# Altium integrated library NSC LDO.IntLib: 2590 symbols (part 20 of 64)
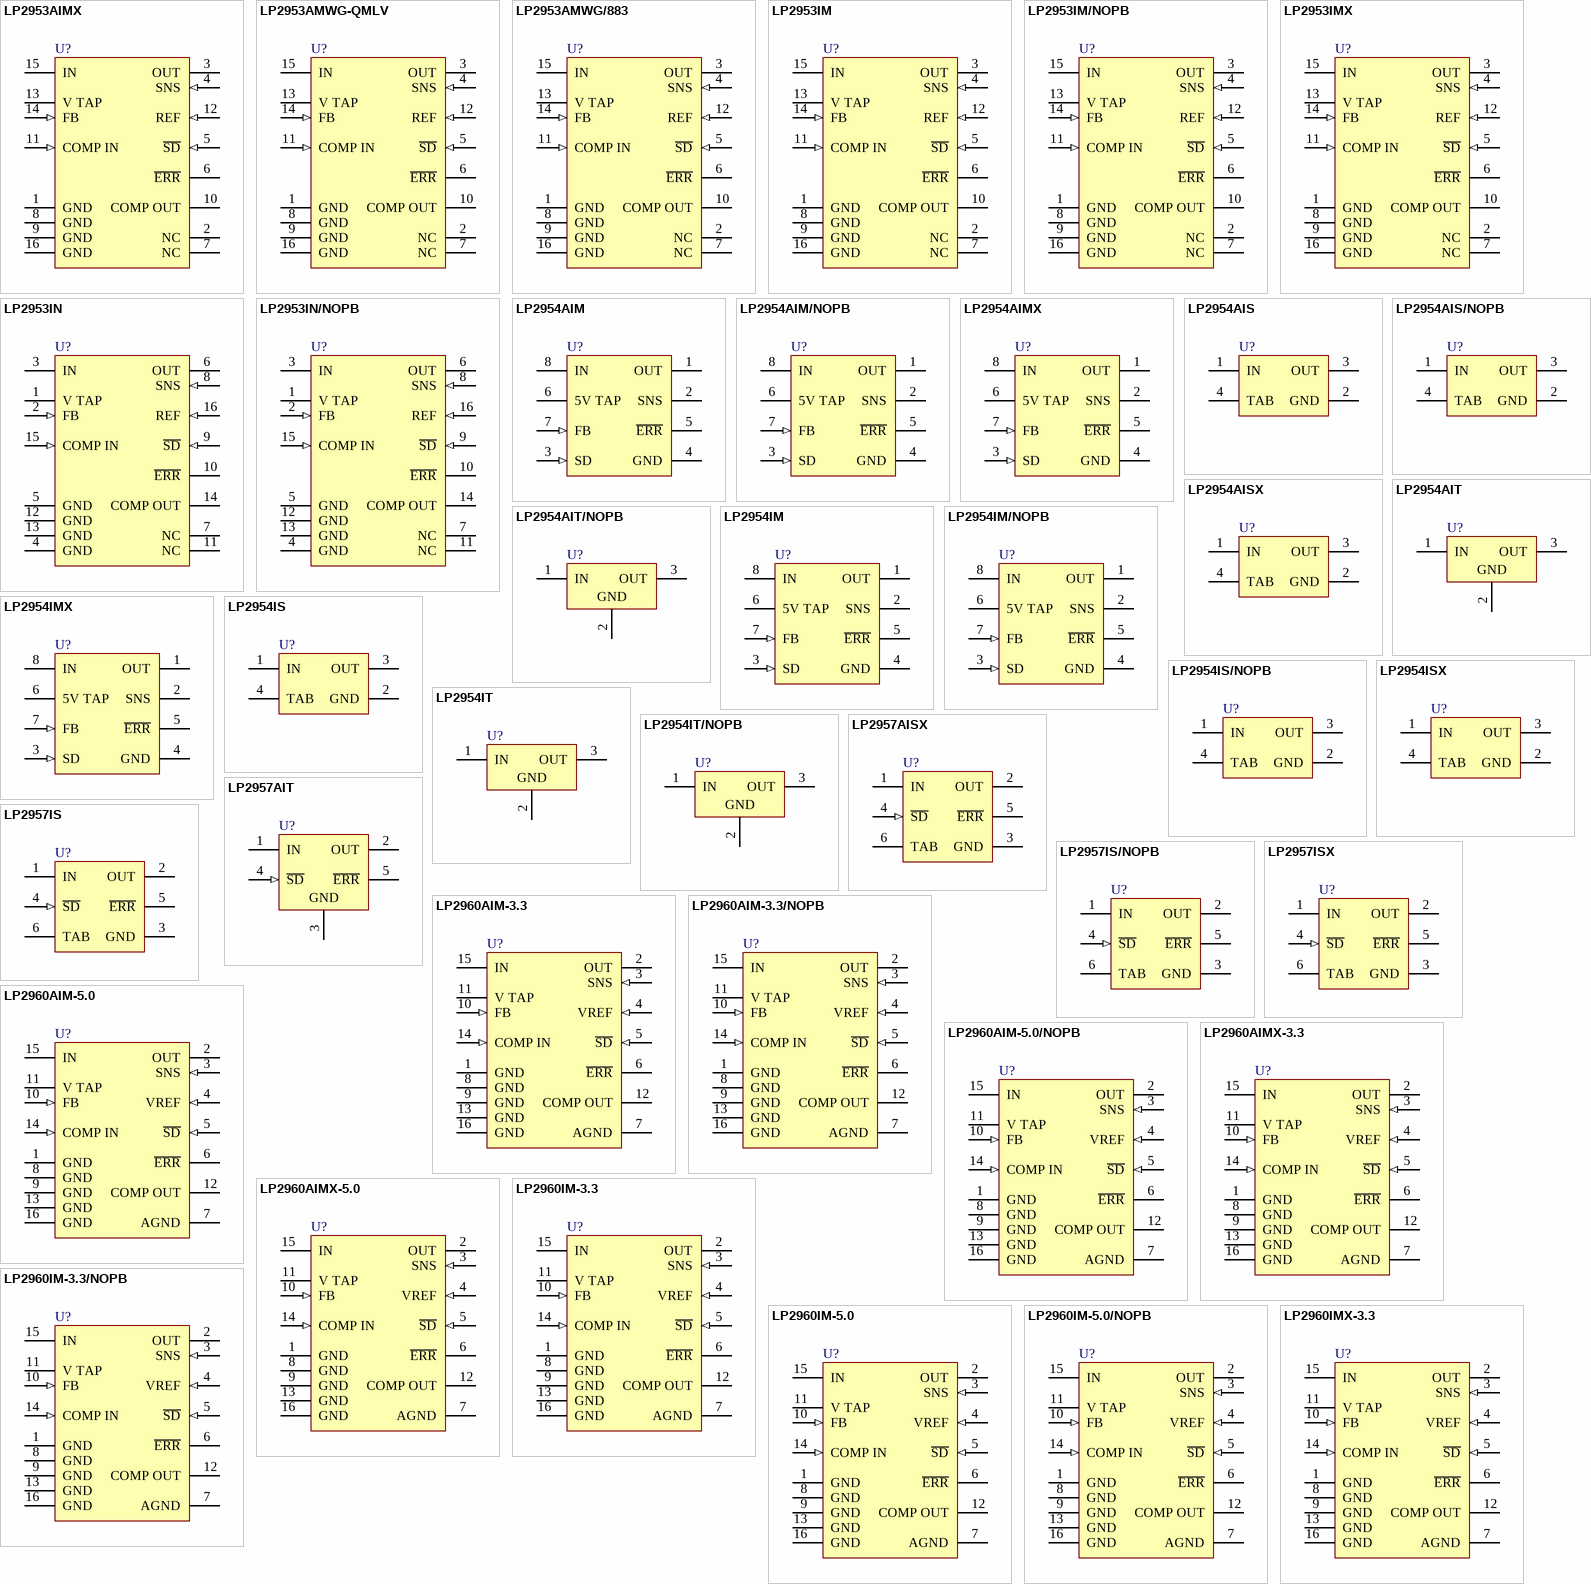
[diagram p84: symbols LP2953AIMX to LP2960IMX-3.3]

## LP2954ISX
designator U?
5V Micropower Low-Dropout Voltage Regulator, 3-pin TO-263; PartNumber: LP2954ISX; Manufacturer: National Semiconductor; PackageTopMarking: NSUZXYTTE#*LP2954IS; PowerWise: N; CompType: LDO IC; Published: 1-Mar-2010; DatasheetVersion: Apr-2005; PackageVersion: revF, Apr-2005; PackageReference: TS3B; Publisher: Altium Limited; PackageDescription: TO-263, Molded, .400 x .390 x .180in, 3 Lead, .1in Pitch, Surface Mount; RoHS: N; PinCount: 3; Code_JEDEC: MO-169-AA; ComponentLink1Description: LP2954 Datasheet; ComponentLink1URL: http://www.national.com/ds/LP/LP2954.pdf; ComponentLink2Description: LP2954 Web Page; ComponentLink2URL: http://www.national.com/pf/LP/LP2954.html; ComponentLink3Description: TS3B Package Page; ComponentLink3URL: http://www.national.com/packaging/folders/ts3b.html
footprint TS3B_N (D2-PAK, 4-Leads, Body 8.6x10.2mm, Pitch 2.54mm, Lead Span 14.2mm, IPC Medium Density)
footprint TS3B_L (D2-PAK, 4-Leads, Body 8.6x10.2mm, Pitch 2.54mm, Lead Span 14.2mm, IPC High Density)
footprint TS3B_M (D2-PAK, 4-Leads, Body 8.6x10.2mm, Pitch 2.54mm, Lead Span 14.2mm, IPC Low Density)
pins: 1 IN (power), 2 GND (power), 3 OUT (power), 4 TAB (power)

## LP2954IT
designator U?
5V Micropower Low-Dropout Voltage Regulator, 3-pin TO-220; PartNumber: LP2954IT; Manufacturer: National Semiconductor; PackageTopMarking: NSUZXYTTE#*LP2954IT; PowerWise: N; CompType: LDO IC; Published: 4-Dec-2008; DatasheetVersion: Apr-2005; PackageVersion: revL, Jan-1992; PackageReference: T03B; Publisher: Altium Limited; PackageDescription: TO-220, Molded, 3 Lead, Straight; Supplier 1: Farnell; Supplier Part Number 1: 9486020; RoHS: N; PinCount: 3; ComponentLink1Description: LP2954 Datasheet; ComponentLink1URL: http://www.national.com/ds/LP/LP2954.pdf; ComponentLink2Description: LP2954 Web Page; ComponentLink2URL: http://www.national.com/pf/LP/LP2954.html; ComponentLink3Description: T03B Package Page; ComponentLink3URL: http://www.national.com/packaging/folders/t03b.html
footprint T03B (TO, Thru-Hole, Vertical, Heatsink Mounted; 3 In-Line Leads; Pitch 2.54 mm)
pins: 1 IN (power), 2 GND (power), 3 OUT (power)

## LP2954IT/NOPB
designator U?
5V Micropower Low-Dropout Voltage Regulator, 3-pin TO-220, Pb-Free; PartNumber: LP2954IT/NOPB; Manufacturer: National Semiconductor; PackageTopMarking: NSUZXYTTE#*LP2954IT; PowerWise: N; CompType: LDO IC; Published: 1-Mar-2010; DatasheetVersion: Apr-2005; PackageVersion: revL, Jan-1992; PackageReference: T03B; Publisher: Altium Limited; PackageDescription: TO-220, Molded, 3 Lead, Straight; Supplier 1: Digi-Key; Supplier Part Number 1: LP2954IT-ND; Supplier 2: Farnell; Supplier Part Number 2: 1371212; RoHS: Y; PinCount: 3; ComponentLink1Description: LP2954 Datasheet; ComponentLink1URL: http://www.national.com/ds/LP/LP2954.pdf; ComponentLink2Description: LP2954 Web Page; ComponentLink2URL: http://www.national.com/pf/LP/LP2954.html; ComponentLink3Description: T03B Package Page; ComponentLink3URL: http://www.national.com/packaging/folders/t03b.html
footprint T03B (TO, Thru-Hole, Vertical, Heatsink Mounted; 3 In-Line Leads; Pitch 2.54 mm)
pins: 1 IN (power), 2 GND (power), 3 OUT (power)

## LP2957AISX
designator U?
5V Low-Dropout Regulator for micro-P Application, 5-pin TO-263; PartNumber: LP2957AISX; Manufacturer: National Semiconductor; PackageTopMarking: NSUZXYTTE#*LP2957AIS; PowerWise: N; CompType: LDO IC; Published: 1-Mar-2010; DatasheetVersion: Jun-1998; PackageVersion: revD, Apr-2005; PackageReference: TS5B; Publisher: Altium Limited; PackageDescription: TO-263, Molded, .400 x .390 x .180in, 5 Lead, .067in Pitch, Surface Mount; RoHS: N; PinCount: 5; Code_JEDEC: MO-169-AB; ComponentLink1Description: LP2957A Datasheet; ComponentLink1URL: http://www.national.com/ds/LP/LP2957A.pdf; ComponentLink2Description: LP2957A Web Page; ComponentLink2URL: http://www.national.com/pf/LP/LP2957A.html; ComponentLink3Description: TS5B Package Page; ComponentLink3URL: http://www.national.com/packaging/folders/ts5b.html
footprint TS5B_N (D2-PAK, 6-Leads, Body 8.6x10.2mm, Pitch 1.7mm, Lead Span 14.1mm, IPC Medium Density)
footprint TS5B_L (D2-PAK, 6-Leads, Body 8.6x10.2mm, Pitch 1.7mm, Lead Span 14.1mm, IPC High Density)
footprint TS5B_M (D2-PAK, 6-Leads, Body 8.6x10.2mm, Pitch 1.7mm, Lead Span 14.1mm, IPC Low Density)
pins: 1 IN (power), 2 OUT (power), 3 GND (power), 4 ~{SD} (in), 5 ~{ERR} (oc), 6 TAB (power)

## LP2957AIT
designator U?
5V Low-Dropout Regulator for micro-P Application, 5-pin TO-220; PartNumber: LP2957AIT; Manufacturer: National Semiconductor; PackageTopMarking: NSUZXYTTE#*LP2957AIT; PowerWise: N; CompType: LDO IC; Published: 4-Dec-2008; DatasheetVersion: Jun-1998; PackageVersion: revA, Oct-1989; PackageReference: T05D; Publisher: Altium Limited; PackageDescription: TO-220, Molded, Stagger Bend, 5 Lead; Supplier 1: Farnell; Supplier Part Number 1: 956041; RoHS: N; PinCount: 5; ComponentLink1Description: LP2957A Datasheet; ComponentLink1URL: http://www.national.com/ds/LP/LP2957A.pdf; ComponentLink2Description: LP2957A Web Page; ComponentLink2URL: http://www.national.com/pf/LP/LP2957A.html; ComponentLink3Description: T05D Package Page; ComponentLink3URL: http://www.national.com/packaging/folders/t05d.html
footprint T05D (TO, Thru-Hole, Vertical, Heatsink Mounted; 5 Bent Staggered Leads; Body 10.3x8.6x4.6mm, Pitch 1.7 mm)
pins: 1 IN (power), 2 OUT (power), 3 GND (power), 4 ~{SD} (in), 5 ~{ERR} (oc)

## LP2957IS
designator U?
5V Low-Dropout Regulator for micro-P Application, 5-pin TO-263; PartNumber: LP2957IS; Manufacturer: National Semiconductor; PackageTopMarking: NSUZXYTTE#*LP2957IS; PowerWise: N; CompType: LDO IC; Published: 4-Dec-2008; DatasheetVersion: Jun-1998; PackageVersion: revD, Apr-2005; PackageReference: TS5B; Publisher: Altium Limited; PackageDescription: TO-263, Molded, .400 x .390 x .180in, 5 Lead, .067in Pitch, Surface Mount; Supplier 1: Farnell; Supplier Part Number 1: 956053; RoHS: N; PinCount: 5; Code_JEDEC: MO-169-AB; ComponentLink1Description: LP2957 Datasheet; ComponentLink1URL: http://www.national.com/ds/LP/LP2957.pdf; ComponentLink2Description: LP2957 Web Page; ComponentLink2URL: http://www.national.com/pf/LP/LP2957.html; ComponentLink3Description: TS5B Package Page; ComponentLink3URL: http://www.national.com/packaging/folders/ts5b.html
footprint TS5B_N (D2-PAK, 6-Leads, Body 8.6x10.2mm, Pitch 1.7mm, Lead Span 14.1mm, IPC Medium Density)
footprint TS5B_L (D2-PAK, 6-Leads, Body 8.6x10.2mm, Pitch 1.7mm, Lead Span 14.1mm, IPC High Density)
footprint TS5B_M (D2-PAK, 6-Leads, Body 8.6x10.2mm, Pitch 1.7mm, Lead Span 14.1mm, IPC Low Density)
pins: 1 IN (power), 2 OUT (power), 3 GND (power), 4 ~{SD} (in), 5 ~{ERR} (oc), 6 TAB (power)

## LP2957IS/NOPB
designator U?
5V Low-Dropout Regulator for micro-P Application, 5-pin TO-263, Pb-Free; PartNumber: LP2957IS/NOPB; Manufacturer: National Semiconductor; PackageTopMarking: NSUZXYTTE#*LP2957IS; PowerWise: N; CompType: LDO IC; Published: 1-Mar-2010; DatasheetVersion: Jun-1998; PackageVersion: revD, Apr-2005; PackageReference: TS5B; Publisher: Altium Limited; PackageDescription: TO-263, Molded, .400 x .390 x .180in, 5 Lead, .067in Pitch, Surface Mount; Supplier 1: Digi-Key; Supplier Part Number 1: LP2957IS-ND; Supplier 2: Farnell; Supplier Part Number 2: 1685672; RoHS: Y; PinCount: 5; Code_JEDEC: MO-169-AB; ComponentLink1Description: LP2957 Datasheet; ComponentLink1URL: http://www.national.com/ds/LP/LP2957.pdf; ComponentLink2Description: LP2957 Web Page; ComponentLink2URL: http://www.national.com/pf/LP/LP2957.html; ComponentLink3Description: TS5B Package Page; ComponentLink3URL: http://www.national.com/packaging/folders/ts5b.html
footprint TS5B_N (D2-PAK, 6-Leads, Body 8.6x10.2mm, Pitch 1.7mm, Lead Span 14.1mm, IPC Medium Density)
footprint TS5B_L (D2-PAK, 6-Leads, Body 8.6x10.2mm, Pitch 1.7mm, Lead Span 14.1mm, IPC High Density)
footprint TS5B_M (D2-PAK, 6-Leads, Body 8.6x10.2mm, Pitch 1.7mm, Lead Span 14.1mm, IPC Low Density)
pins: 1 IN (power), 2 OUT (power), 3 GND (power), 4 ~{SD} (in), 5 ~{ERR} (oc), 6 TAB (power)

## LP2957ISX
designator U?
5V Low-Dropout Regulator for micro-P Application, 5-pin TO-263; PartNumber: LP2957ISX; Manufacturer: National Semiconductor; PackageTopMarking: NSUZXYTTE#*LP2957IS; PowerWise: N; CompType: LDO IC; Published: 1-Mar-2010; DatasheetVersion: Jun-1998; PackageVersion: revD, Apr-2005; PackageReference: TS5B; Publisher: Altium Limited; PackageDescription: TO-263, Molded, .400 x .390 x .180in, 5 Lead, .067in Pitch, Surface Mount; RoHS: N; PinCount: 5; Code_JEDEC: MO-169-AB; ComponentLink1Description: LP2957 Datasheet; ComponentLink1URL: http://www.national.com/ds/LP/LP2957.pdf; ComponentLink2Description: LP2957 Web Page; ComponentLink2URL: http://www.national.com/pf/LP/LP2957.html; ComponentLink3Description: TS5B Package Page; ComponentLink3URL: http://www.national.com/packaging/folders/ts5b.html
footprint TS5B_N (D2-PAK, 6-Leads, Body 8.6x10.2mm, Pitch 1.7mm, Lead Span 14.1mm, IPC Medium Density)
footprint TS5B_L (D2-PAK, 6-Leads, Body 8.6x10.2mm, Pitch 1.7mm, Lead Span 14.1mm, IPC High Density)
footprint TS5B_M (D2-PAK, 6-Leads, Body 8.6x10.2mm, Pitch 1.7mm, Lead Span 14.1mm, IPC Low Density)
pins: 1 IN (power), 2 OUT (power), 3 GND (power), 4 ~{SD} (in), 5 ~{ERR} (oc), 6 TAB (power)

## LP2960AIM-3.3
designator U?
Adjustable Micropower 0.5A Low-Dropout Regulators, 16-pin Narrow SOIC; PartNumber: LP2960AIM-3.3; Manufacturer: National Semiconductor; PackageTopMarking: NSUZXYTTE#*LP2960AIM*-3.3; PowerWise: N; CompType: LDO IC; Published: 4-Dec-2008; DatasheetVersion: Jun-2005; PackageVersion: revJ, Aug-1995; PackageReference: M16A; Publisher: Altium Limited; PackageDescription: Molded Package, SO, .150in Wide, 16 Lead; Supplier 1: Farnell; Supplier Part Number 1: 956077; RoHS: N; PinCount: 16; Code_JEDEC: MS-012-AC; Code_IPC: SOIC127P600-16; ComponentLink1Description: LP2960 Datasheet; ComponentLink1URL: http://www.national.com/ds/LP/LP2960.pdf; ComponentLink2Description: LP2960 Web Page; ComponentLink2URL: http://www.national.com/pf/LP/LP2960.html; ComponentLink3Description: M16A Package Page; ComponentLink3URL: http://www.national.com/packaging/folders/m16a.html
footprint M16A_N (SOIC, 16-Leads, Body 9.9x3.9mm, Pitch 1.27mm, IPC Medium Density)
footprint M16A_L (SOIC, 16-Leads, Body 9.9x3.9mm, Pitch 1.27mm, IPC High Density)
footprint M16A_M (SOIC, 16-Leads, Body 9.9x3.9mm, Pitch 1.27mm, IPC Low Density)
pins: 1 GND (power), 2 OUT (power), 3 SNS (in), 4 VREF (in), 5 ~{SD} (in), 6 ~{ERR} (oc), 7 AGND (power), 8 GND (power), 9 GND (power), 10 FB (in), 11 V TAP, 12 COMP OUT (oc), 13 GND (power), 14 COMP IN (in), 15 IN (power), 16 GND (power)

## LP2960AIM-3.3/NOPB
designator U?
Adjustable Micropower 0.5A Low-Dropout Regulators, 16-pin Narrow SOIC, Pb-Free; PartNumber: LP2960AIM-3.3/NOPB; Manufacturer: National Semiconductor; PackageTopMarking: NSUZXYTTE#*LP2960AIM*-3.3; PowerWise: N; CompType: LDO IC; Published: 1-Mar-2010; DatasheetVersion: Jun-2005; PackageVersion: revJ, Aug-1995; PackageReference: M16A; Publisher: Altium Limited; PackageDescription: Molded Package, SO, .150in Wide, 16 Lead; Supplier 1: Digi-Key; Supplier Part Number 1: LP2960AIM-3.3-ND; RoHS: Y; PinCount: 16; Code_JEDEC: MS-012-AC; Code_IPC: SOIC127P600-16; ComponentLink1Description: LP2960 Datasheet; ComponentLink1URL: http://www.national.com/ds/LP/LP2960.pdf; ComponentLink2Description: LP2960 Web Page; ComponentLink2URL: http://www.national.com/pf/LP/LP2960.html; ComponentLink3Description: M16A Package Page; ComponentLink3URL: http://www.national.com/packaging/folders/m16a.html
footprint M16A_N (SOIC, 16-Leads, Body 9.9x3.9mm, Pitch 1.27mm, IPC Medium Density)
footprint M16A_L (SOIC, 16-Leads, Body 9.9x3.9mm, Pitch 1.27mm, IPC High Density)
footprint M16A_M (SOIC, 16-Leads, Body 9.9x3.9mm, Pitch 1.27mm, IPC Low Density)
pins: 1 GND (power), 2 OUT (power), 3 SNS (in), 4 VREF (in), 5 ~{SD} (in), 6 ~{ERR} (oc), 7 AGND (power), 8 GND (power), 9 GND (power), 10 FB (in), 11 V TAP, 12 COMP OUT (oc), 13 GND (power), 14 COMP IN (in), 15 IN (power), 16 GND (power)

## LP2960AIM-5.0
designator U?
Adjustable Micropower 0.5A Low-Dropout Regulators, 16-pin Narrow SOIC; PartNumber: LP2960AIM-5.0; Manufacturer: National Semiconductor; PackageTopMarking: NSUZXYTTE#*LP2960AIM*-5.0; PowerWise: N; CompType: LDO IC; Published: 4-Dec-2008; DatasheetVersion: Jun-2005; PackageVersion: revJ, Aug-1995; PackageReference: M16A; Publisher: Altium Limited; PackageDescription: Molded Package, SO, .150in Wide, 16 Lead; Supplier 1: Digi-Key; Supplier Part Number 1: LP2960AIM-5.0-ND; Supplier 2: Farnell; Supplier Part Number 2: 9494863; RoHS: N; PinCount: 16; Code_JEDEC: MS-012-AC; Code_IPC: SOIC127P600-16; ComponentLink1Description: LP2960 Datasheet; ComponentLink1URL: http://www.national.com/ds/LP/LP2960.pdf; ComponentLink2Description: LP2960 Web Page; ComponentLink2URL: http://www.national.com/pf/LP/LP2960.html; ComponentLink3Description: M16A Package Page; ComponentLink3URL: http://www.national.com/packaging/folders/m16a.html
footprint M16A_N (SOIC, 16-Leads, Body 9.9x3.9mm, Pitch 1.27mm, IPC Medium Density)
footprint M16A_L (SOIC, 16-Leads, Body 9.9x3.9mm, Pitch 1.27mm, IPC High Density)
footprint M16A_M (SOIC, 16-Leads, Body 9.9x3.9mm, Pitch 1.27mm, IPC Low Density)
pins: 1 GND (power), 2 OUT (power), 3 SNS (in), 4 VREF (in), 5 ~{SD} (in), 6 ~{ERR} (oc), 7 AGND (power), 8 GND (power), 9 GND (power), 10 FB (in), 11 V TAP, 12 COMP OUT (oc), 13 GND (power), 14 COMP IN (in), 15 IN (power), 16 GND (power)

## LP2960AIM-5.0/NOPB
designator U?
Adjustable Micropower 0.5A Low-Dropout Regulators, 16-pin Narrow SOIC, Pb-Free; PartNumber: LP2960AIM-5.0/NOPB; Manufacturer: National Semiconductor; PackageTopMarking: NSUZXYTTE#*LP2960AIM*-5.0; PowerWise: N; CompType: LDO IC; Published: 1-Mar-2010; DatasheetVersion: Jun-2005; PackageVersion: revJ, Aug-1995; PackageReference: M16A; Publisher: Altium Limited; PackageDescription: Molded Package, SO, .150in Wide, 16 Lead; Supplier 1: Digi-Key; Supplier Part Number 1: LP2960AIM-5.0/NOPB-ND; RoHS: Y; PinCount: 16; Code_JEDEC: MS-012-AC; Code_IPC: SOIC127P600-16; ComponentLink1Description: LP2960 Datasheet; ComponentLink1URL: http://www.national.com/ds/LP/LP2960.pdf; ComponentLink2Description: LP2960 Web Page; ComponentLink2URL: http://www.national.com/pf/LP/LP2960.html; ComponentLink3Description: M16A Package Page; ComponentLink3URL: http://www.national.com/packaging/folders/m16a.html
footprint M16A_N (SOIC, 16-Leads, Body 9.9x3.9mm, Pitch 1.27mm, IPC Medium Density)
footprint M16A_L (SOIC, 16-Leads, Body 9.9x3.9mm, Pitch 1.27mm, IPC High Density)
footprint M16A_M (SOIC, 16-Leads, Body 9.9x3.9mm, Pitch 1.27mm, IPC Low Density)
pins: 1 GND (power), 2 OUT (power), 3 SNS (in), 4 VREF (in), 5 ~{SD} (in), 6 ~{ERR} (oc), 7 AGND (power), 8 GND (power), 9 GND (power), 10 FB (in), 11 V TAP, 12 COMP OUT (oc), 13 GND (power), 14 COMP IN (in), 15 IN (power), 16 GND (power)

## LP2960AIMX-3.3
designator U?
Adjustable Micropower 0.5A Low-Dropout Regulators, 16-pin Narrow SOIC; PartNumber: LP2960AIMX-3.3; Manufacturer: National Semiconductor; PackageTopMarking: NSUZXYTTE#*LP2960AIM*-3.3; PowerWise: N; CompType: LDO IC; Published: 1-Mar-2010; DatasheetVersion: Jun-2005; PackageVersion: revJ, Aug-1995; PackageReference: M16A; Publisher: Altium Limited; PackageDescription: Molded Package, SO, .150in Wide, 16 Lead; RoHS: N; PinCount: 16; Code_JEDEC: MS-012-AC; Code_IPC: SOIC127P600-16; ComponentLink1Description: LP2960 Datasheet; ComponentLink1URL: http://www.national.com/ds/LP/LP2960.pdf; ComponentLink2Description: LP2960 Web Page; ComponentLink2URL: http://www.national.com/pf/LP/LP2960.html; ComponentLink3Description: M16A Package Page; ComponentLink3URL: http://www.national.com/packaging/folders/m16a.html
footprint M16A_N (SOIC, 16-Leads, Body 9.9x3.9mm, Pitch 1.27mm, IPC Medium Density)
footprint M16A_L (SOIC, 16-Leads, Body 9.9x3.9mm, Pitch 1.27mm, IPC High Density)
footprint M16A_M (SOIC, 16-Leads, Body 9.9x3.9mm, Pitch 1.27mm, IPC Low Density)
pins: 1 GND (power), 2 OUT (power), 3 SNS (in), 4 VREF (in), 5 ~{SD} (in), 6 ~{ERR} (oc), 7 AGND (power), 8 GND (power), 9 GND (power), 10 FB (in), 11 V TAP, 12 COMP OUT (oc), 13 GND (power), 14 COMP IN (in), 15 IN (power), 16 GND (power)

## LP2960AIMX-5.0
designator U?
Adjustable Micropower 0.5A Low-Dropout Regulators, 16-pin Narrow SOIC; PartNumber: LP2960AIMX-5.0; Manufacturer: National Semiconductor; PackageTopMarking: NSUZXYTTE#*LP2960AIM*-5.0; PowerWise: N; CompType: LDO IC; Published: 1-Mar-2010; DatasheetVersion: Jun-2005; PackageVersion: revJ, Aug-1995; PackageReference: M16A; Publisher: Altium Limited; PackageDescription: Molded Package, SO, .150in Wide, 16 Lead; Supplier 1: Digi-Key; Supplier Part Number 1: LP2960AIMX-5.0-ND; RoHS: N; PinCount: 16; Code_JEDEC: MS-012-AC; Code_IPC: SOIC127P600-16; ComponentLink1Description: LP2960 Datasheet; ComponentLink1URL: http://www.national.com/ds/LP/LP2960.pdf; ComponentLink2Description: LP2960 Web Page; ComponentLink2URL: http://www.national.com/pf/LP/LP2960.html; ComponentLink3Description: M16A Package Page; ComponentLink3URL: http://www.national.com/packaging/folders/m16a.html
footprint M16A_N (SOIC, 16-Leads, Body 9.9x3.9mm, Pitch 1.27mm, IPC Medium Density)
footprint M16A_L (SOIC, 16-Leads, Body 9.9x3.9mm, Pitch 1.27mm, IPC High Density)
footprint M16A_M (SOIC, 16-Leads, Body 9.9x3.9mm, Pitch 1.27mm, IPC Low Density)
pins: 1 GND (power), 2 OUT (power), 3 SNS (in), 4 VREF (in), 5 ~{SD} (in), 6 ~{ERR} (oc), 7 AGND (power), 8 GND (power), 9 GND (power), 10 FB (in), 11 V TAP, 12 COMP OUT (oc), 13 GND (power), 14 COMP IN (in), 15 IN (power), 16 GND (power)

## LP2960IM-3.3
designator U?
Adjustable Micropower 0.5A Low-Dropout Regulators, 16-pin Narrow SOIC; PartNumber: LP2960IM-3.3; Manufacturer: National Semiconductor; PackageTopMarking: NSUZXYTTE#*LP2960IM*-3.3; PowerWise: N; CompType: LDO IC; Published: 4-Dec-2008; DatasheetVersion: Jun-2005; PackageVersion: revJ, Aug-1995; PackageReference: M16A; Publisher: Altium Limited; PackageDescription: Molded Package, SO, .150in Wide, 16 Lead; Supplier 1: Farnell; Supplier Part Number 1: 9494871; RoHS: N; PinCount: 16; Code_JEDEC: MS-012-AC; Code_IPC: SOIC127P600-16; ComponentLink1Description: LP2960 Datasheet; ComponentLink1URL: http://www.national.com/ds/LP/LP2960.pdf; ComponentLink2Description: LP2960 Web Page; ComponentLink2URL: http://www.national.com/pf/LP/LP2960.html; ComponentLink3Description: M16A Package Page; ComponentLink3URL: http://www.national.com/packaging/folders/m16a.html
footprint M16A_N (SOIC, 16-Leads, Body 9.9x3.9mm, Pitch 1.27mm, IPC Medium Density)
footprint M16A_L (SOIC, 16-Leads, Body 9.9x3.9mm, Pitch 1.27mm, IPC High Density)
footprint M16A_M (SOIC, 16-Leads, Body 9.9x3.9mm, Pitch 1.27mm, IPC Low Density)
pins: 1 GND (power), 2 OUT (power), 3 SNS (in), 4 VREF (in), 5 ~{SD} (in), 6 ~{ERR} (oc), 7 AGND (power), 8 GND (power), 9 GND (power), 10 FB (in), 11 V TAP, 12 COMP OUT (oc), 13 GND (power), 14 COMP IN (in), 15 IN (power), 16 GND (power)

## LP2960IM-3.3/NOPB
designator U?
Adjustable Micropower 0.5A Low-Dropout Regulators, 16-pin Narrow SOIC, Pb-Free; PartNumber: LP2960IM-3.3/NOPB; Manufacturer: National Semiconductor; PackageTopMarking: NSUZXYTTE#*LP2960IM*-3.3; PowerWise: N; CompType: LDO IC; Published: 1-Mar-2010; DatasheetVersion: Jun-2005; PackageVersion: revJ, Aug-1995; PackageReference: M16A; Publisher: Altium Limited; PackageDescription: Molded Package, SO, .150in Wide, 16 Lead; Supplier 1: Digi-Key; Supplier Part Number 1: LP2960IM-3.3-ND; RoHS: Y; PinCount: 16; Code_JEDEC: MS-012-AC; Code_IPC: SOIC127P600-16; ComponentLink1Description: LP2960 Datasheet; ComponentLink1URL: http://www.national.com/ds/LP/LP2960.pdf; ComponentLink2Description: LP2960 Web Page; ComponentLink2URL: http://www.national.com/pf/LP/LP2960.html; ComponentLink3Description: M16A Package Page; ComponentLink3URL: http://www.national.com/packaging/folders/m16a.html
footprint M16A_N (SOIC, 16-Leads, Body 9.9x3.9mm, Pitch 1.27mm, IPC Medium Density)
footprint M16A_L (SOIC, 16-Leads, Body 9.9x3.9mm, Pitch 1.27mm, IPC High Density)
footprint M16A_M (SOIC, 16-Leads, Body 9.9x3.9mm, Pitch 1.27mm, IPC Low Density)
pins: 1 GND (power), 2 OUT (power), 3 SNS (in), 4 VREF (in), 5 ~{SD} (in), 6 ~{ERR} (oc), 7 AGND (power), 8 GND (power), 9 GND (power), 10 FB (in), 11 V TAP, 12 COMP OUT (oc), 13 GND (power), 14 COMP IN (in), 15 IN (power), 16 GND (power)

## LP2960IM-5.0
designator U?
Adjustable Micropower 0.5A Low-Dropout Regulators, 16-pin Narrow SOIC; PartNumber: LP2960IM-5.0; Manufacturer: National Semiconductor; PackageTopMarking: NSUZXYTTE#*LP2960IM*-5.0; PowerWise: N; CompType: LDO IC; Published: 4-Dec-2008; DatasheetVersion: Jun-2005; PackageVersion: revJ, Aug-1995; PackageReference: M16A; Publisher: Altium Limited; PackageDescription: Molded Package, SO, .150in Wide, 16 Lead; Supplier 1: Digi-Key; Supplier Part Number 1: LP2960IM-5.0-ND; Supplier 2: Farnell; Supplier Part Number 2: 956120; RoHS: N; PinCount: 16; Code_JEDEC: MS-012-AC; Code_IPC: SOIC127P600-16; ComponentLink1Description: LP2960 Datasheet; ComponentLink1URL: http://www.national.com/ds/LP/LP2960.pdf; ComponentLink2Description: LP2960 Web Page; ComponentLink2URL: http://www.national.com/pf/LP/LP2960.html; ComponentLink3Description: M16A Package Page; ComponentLink3URL: http://www.national.com/packaging/folders/m16a.html
footprint M16A_N (SOIC, 16-Leads, Body 9.9x3.9mm, Pitch 1.27mm, IPC Medium Density)
footprint M16A_L (SOIC, 16-Leads, Body 9.9x3.9mm, Pitch 1.27mm, IPC High Density)
footprint M16A_M (SOIC, 16-Leads, Body 9.9x3.9mm, Pitch 1.27mm, IPC Low Density)
pins: 1 GND (power), 2 OUT (power), 3 SNS (in), 4 VREF (in), 5 ~{SD} (in), 6 ~{ERR} (oc), 7 AGND (power), 8 GND (power), 9 GND (power), 10 FB (in), 11 V TAP, 12 COMP OUT (oc), 13 GND (power), 14 COMP IN (in), 15 IN (power), 16 GND (power)

## LP2960IM-5.0/NOPB
designator U?
Adjustable Micropower 0.5A Low-Dropout Regulators, 16-pin Narrow SOIC, Pb-Free; PartNumber: LP2960IM-5.0/NOPB; Manufacturer: National Semiconductor; PackageTopMarking: NSUZXYTTE#*LP2960IM*-5.0; PowerWise: N; CompType: LDO IC; Published: 1-Mar-2010; DatasheetVersion: Jun-2005; PackageVersion: revJ, Aug-1995; PackageReference: M16A; Publisher: Altium Limited; PackageDescription: Molded Package, SO, .150in Wide, 16 Lead; Supplier 1: Digi-Key; Supplier Part Number 1: LP2960IM-5.0/NOPB-ND; Supplier 2: Farnell; Supplier Part Number 2: 1685674; RoHS: Y; PinCount: 16; Code_JEDEC: MS-012-AC; Code_IPC: SOIC127P600-16; ComponentLink1Description: LP2960 Datasheet; ComponentLink1URL: http://www.national.com/ds/LP/LP2960.pdf; ComponentLink2Description: LP2960 Web Page; ComponentLink2URL: http://www.national.com/pf/LP/LP2960.html; ComponentLink3Description: M16A Package Page; ComponentLink3URL: http://www.national.com/packaging/folders/m16a.html
footprint M16A_N (SOIC, 16-Leads, Body 9.9x3.9mm, Pitch 1.27mm, IPC Medium Density)
footprint M16A_L (SOIC, 16-Leads, Body 9.9x3.9mm, Pitch 1.27mm, IPC High Density)
footprint M16A_M (SOIC, 16-Leads, Body 9.9x3.9mm, Pitch 1.27mm, IPC Low Density)
pins: 1 GND (power), 2 OUT (power), 3 SNS (in), 4 VREF (in), 5 ~{SD} (in), 6 ~{ERR} (oc), 7 AGND (power), 8 GND (power), 9 GND (power), 10 FB (in), 11 V TAP, 12 COMP OUT (oc), 13 GND (power), 14 COMP IN (in), 15 IN (power), 16 GND (power)

## LP2960IMX-3.3
designator U?
Adjustable Micropower 0.5A Low-Dropout Regulators, 16-pin Narrow SOIC; PartNumber: LP2960IMX-3.3; Manufacturer: National Semiconductor; PackageTopMarking: NSUZXYTTE#*LP2960IM*-3.3; PowerWise: N; CompType: LDO IC; Published: 1-Mar-2010; DatasheetVersion: Jun-2005; PackageVersion: revJ, Aug-1995; PackageReference: M16A; Publisher: Altium Limited; PackageDescription: Molded Package, SO, .150in Wide, 16 Lead; RoHS: N; PinCount: 16; Code_JEDEC: MS-012-AC; Code_IPC: SOIC127P600-16; ComponentLink1Description: LP2960 Datasheet; ComponentLink1URL: http://www.national.com/ds/LP/LP2960.pdf; ComponentLink2Description: LP2960 Web Page; ComponentLink2URL: http://www.national.com/pf/LP/LP2960.html; ComponentLink3Description: M16A Package Page; ComponentLink3URL: http://www.national.com/packaging/folders/m16a.html
footprint M16A_N (SOIC, 16-Leads, Body 9.9x3.9mm, Pitch 1.27mm, IPC Medium Density)
footprint M16A_L (SOIC, 16-Leads, Body 9.9x3.9mm, Pitch 1.27mm, IPC High Density)
footprint M16A_M (SOIC, 16-Leads, Body 9.9x3.9mm, Pitch 1.27mm, IPC Low Density)
pins: 1 GND (power), 2 OUT (power), 3 SNS (in), 4 VREF (in), 5 ~{SD} (in), 6 ~{ERR} (oc), 7 AGND (power), 8 GND (power), 9 GND (power), 10 FB (in), 11 V TAP, 12 COMP OUT (oc), 13 GND (power), 14 COMP IN (in), 15 IN (power), 16 GND (power)

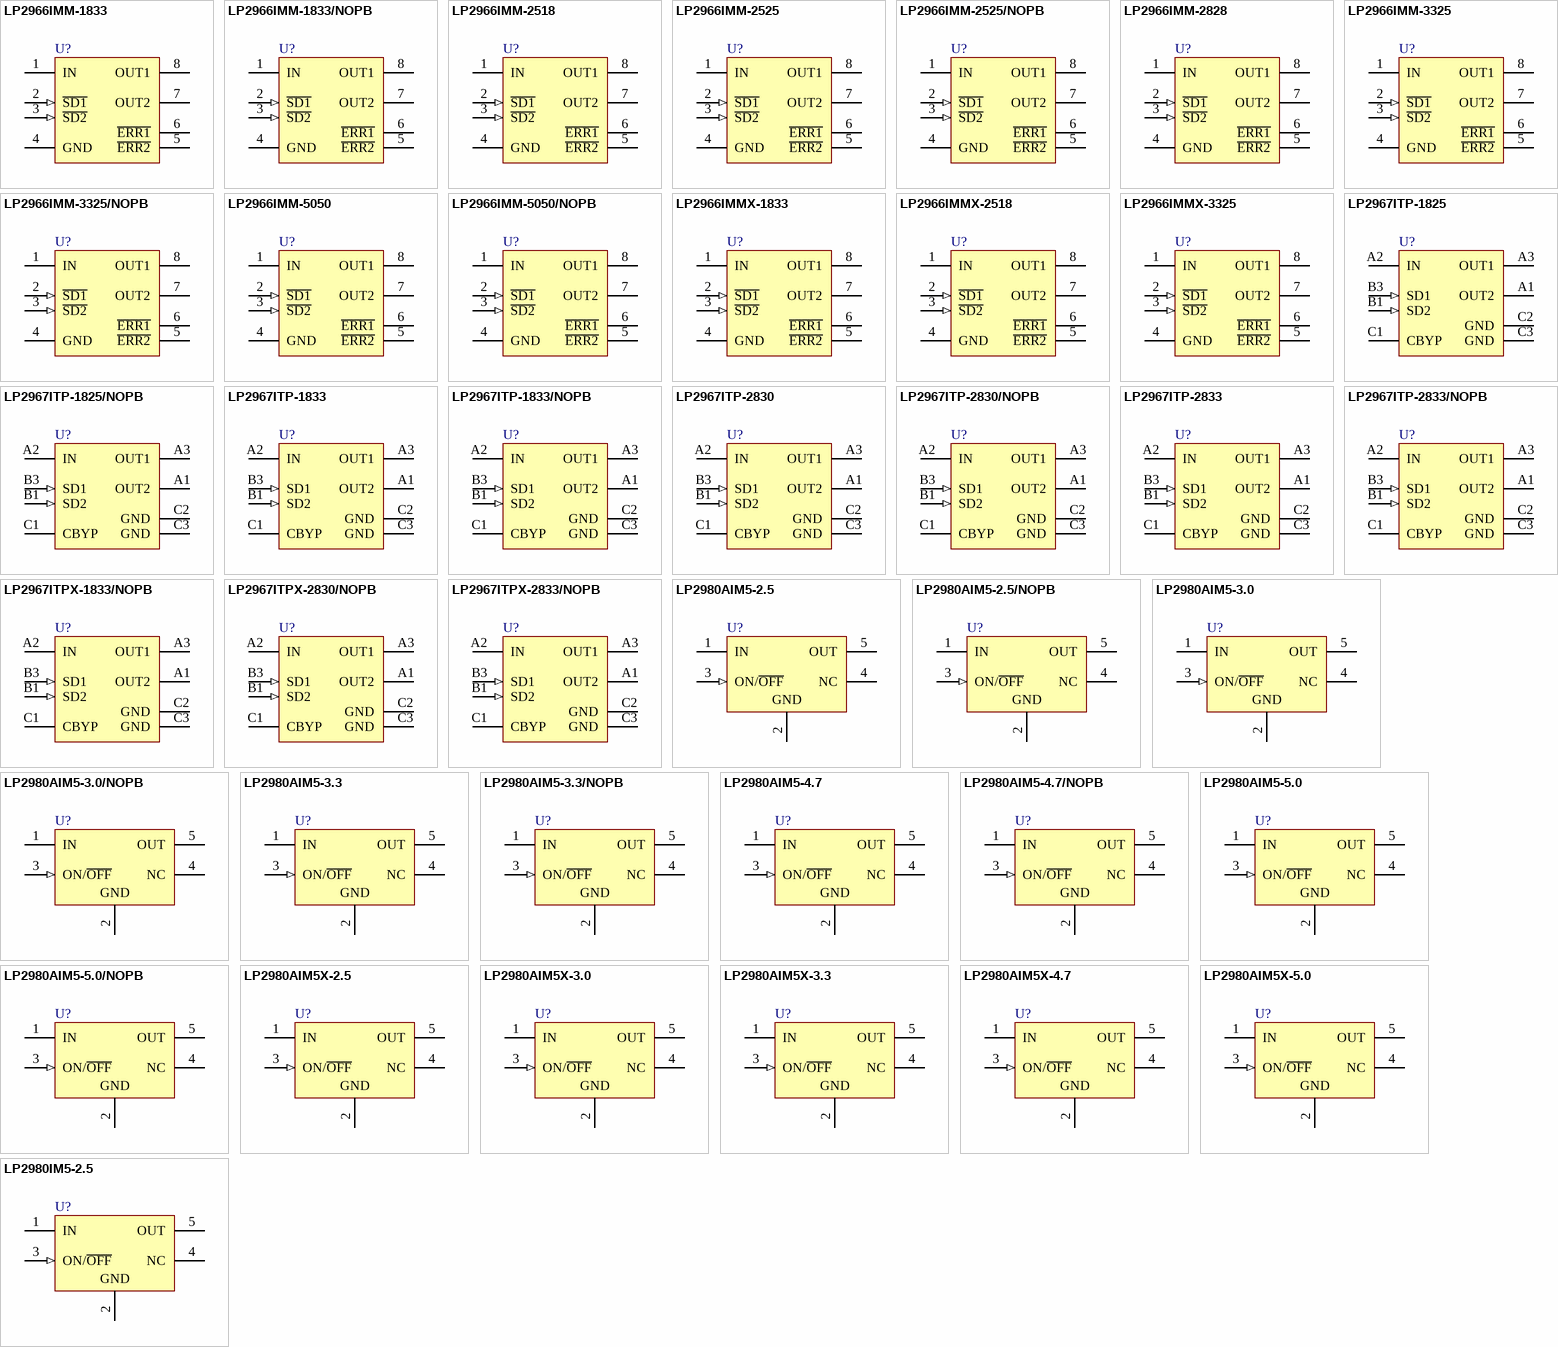
[diagram p21: symbols LP2966IMM-1833 to LP2980IM5-2.5]

## LP2966IMM-1833
designator U?
Dual 150mA Ultra Low-Dropout Regulator, 8-pin Mini SOIC; PartNumber: LP2966IMM-1833; Manufacturer: National Semiconductor; PackageTopMarking: ZXTT*LCFB; PowerWise: N; CompType: LDO IC; Published: 4-Dec-2008; DatasheetVersion: Mar-2005; PackageVersion: revF, Apr-2008; PackageReference: MUA08A; Publisher: Altium Limited; PackageDescription: MINI SOIC, .118 x .118 x .034in, 8 Lead, .0256in Pitch; Supplier 1: Farnell; Supplier Part Number 1: 1312846; RoHS: N; PinCount: 8; Code_JEDEC: MO-187-AA; ComponentLink1Description: LP2966 Datasheet; ComponentLink1URL: http://www.national.com/ds/LP/LP2966.pdf; ComponentLink2Description: LP2966 Web Page; ComponentLink2URL: http://www.national.com/pf/LP/LP2966.html; ComponentLink3Description: MUA08A Package Page; ComponentLink3URL: http://www.national.com/packaging/folders/mua08a.html
footprint MUA08A_N (TSOP, 8-Leads, Body 3x3mm, Pitch 0.65mm, IPC Medium Density)
footprint MUA08A_L (TSOP, 8-Leads, Body 3x3mm, Pitch 0.65mm, IPC High Density)
footprint MUA08A_M (TSOP, 8-Leads, Body 3x3mm, Pitch 0.65mm, IPC Low Density)
pins: 1 IN (power), 2 ~{SD1} (in), 3 ~{SD2} (in), 4 GND (power), 5 ~{ERR2} (oc), 6 ~{ERR1} (oc), 7 OUT2 (power), 8 OUT1 (power)

## LP2966IMM-1833/NOPB
designator U?
Dual 150mA Ultra Low-Dropout Regulator, 8-pin Mini SOIC, Pb-Free; PartNumber: LP2966IMM-1833/NOPB; Manufacturer: National Semiconductor; PackageTopMarking: ZXTT*LCFB; PowerWise: N; CompType: LDO IC; Published: 1-Mar-2010; DatasheetVersion: Mar-2005; PackageVersion: revF, Apr-2008; PackageReference: MUA08A; Publisher: Altium Limited; PackageDescription: MINI SOIC, .118 x .118 x .034in, 8 Lead, .0256in Pitch; Supplier 1: Digi-Key; Supplier Part Number 1: LP2966IMM-1833TR-ND; Supplier 2: Digi-Key; Supplier Part Number 2: LP2966IMM-1833CT-ND; Supplier 3: Digi-Key; Supplier Part Number 3: LP2966IMM-1833DKR-ND; Supplier 4: Farnell; Supplier Part Number 4: 1559571; RoHS: Y; PinCount: 8; Code_JEDEC: MO-187-AA; ComponentLink1Description: LP2966 Datasheet; ComponentLink1URL: http://www.national.com/ds/LP/LP2966.pdf; ComponentLink2Description: LP2966 Web Page; ComponentLink2URL: http://www.national.com/pf/LP/LP2966.html; ComponentLink3Description: MUA08A Package Page; ComponentLink3URL: http://www.national.com/packaging/folders/mua08a.html
footprint MUA08A_N (TSOP, 8-Leads, Body 3x3mm, Pitch 0.65mm, IPC Medium Density)
footprint MUA08A_L (TSOP, 8-Leads, Body 3x3mm, Pitch 0.65mm, IPC High Density)
footprint MUA08A_M (TSOP, 8-Leads, Body 3x3mm, Pitch 0.65mm, IPC Low Density)
pins: 1 IN (power), 2 ~{SD1} (in), 3 ~{SD2} (in), 4 GND (power), 5 ~{ERR2} (oc), 6 ~{ERR1} (oc), 7 OUT2 (power), 8 OUT1 (power)

## LP2966IMM-2518
designator U?
Dual 150mA Ultra Low-Dropout Regulator, 8-pin Mini SOIC; PartNumber: LP2966IMM-2518; Manufacturer: National Semiconductor; PackageTopMarking: ZXTT*LJKB; PowerWise: N; CompType: LDO IC; Published: 4-Dec-2008; DatasheetVersion: Mar-2005; PackageVersion: revF, Apr-2008; PackageReference: MUA08A; Publisher: Altium Limited; PackageDescription: MINI SOIC, .118 x .118 x .034in, 8 Lead, .0256in Pitch; Supplier 1: Farnell; Supplier Part Number 1: 1312847; RoHS: N; PinCount: 8; Code_JEDEC: MO-187-AA; ComponentLink1Description: LP2966 Datasheet; ComponentLink1URL: http://www.national.com/ds/LP/LP2966.pdf; ComponentLink2Description: LP2966 Web Page; ComponentLink2URL: http://www.national.com/pf/LP/LP2966.html; ComponentLink3Description: MUA08A Package Page; ComponentLink3URL: http://www.national.com/packaging/folders/mua08a.html
footprint MUA08A_N (TSOP, 8-Leads, Body 3x3mm, Pitch 0.65mm, IPC Medium Density)
footprint MUA08A_L (TSOP, 8-Leads, Body 3x3mm, Pitch 0.65mm, IPC High Density)
footprint MUA08A_M (TSOP, 8-Leads, Body 3x3mm, Pitch 0.65mm, IPC Low Density)
pins: 1 IN (power), 2 ~{SD1} (in), 3 ~{SD2} (in), 4 GND (power), 5 ~{ERR2} (oc), 6 ~{ERR1} (oc), 7 OUT2 (power), 8 OUT1 (power)

## LP2966IMM-2525
designator U?
Dual 150mA Ultra Low-Dropout Regulator, 8-pin Mini SOIC; PartNumber: LP2966IMM-2525; Manufacturer: National Semiconductor; PackageTopMarking: ZXTT*LAAB; PowerWise: N; CompType: LDO IC; Published: 4-Dec-2008; DatasheetVersion: Mar-2005; PackageVersion: revF, Apr-2008; PackageReference: MUA08A; Publisher: Altium Limited; PackageDescription: MINI SOIC, .118 x .118 x .034in, 8 Lead, .0256in Pitch; Supplier 1: Digi-Key; Supplier Part Number 1: LP2966IMM-2525TR-ND; Supplier 2: Digi-Key; Supplier Part Number 2: LP2966IMM-2525CT-ND; Supplier 3: Digi-Key; Supplier Part Number 3: LP2966IMM-2525DKR-ND; Supplier 4: Farnell; Supplier Part Number 4: 9778411; RoHS: N; PinCount: 8; Code_JEDEC: MO-187-AA; ComponentLink1Description: LP2966 Datasheet; ComponentLink1URL: http://www.national.com/ds/LP/LP2966.pdf; ComponentLink2Description: LP2966 Web Page; ComponentLink2URL: http://www.national.com/pf/LP/LP2966.html; ComponentLink3Description: MUA08A Package Page; ComponentLink3URL: http://www.national.com/packaging/folders/mua08a.html
footprint MUA08A_N (TSOP, 8-Leads, Body 3x3mm, Pitch 0.65mm, IPC Medium Density)
footprint MUA08A_L (TSOP, 8-Leads, Body 3x3mm, Pitch 0.65mm, IPC High Density)
footprint MUA08A_M (TSOP, 8-Leads, Body 3x3mm, Pitch 0.65mm, IPC Low Density)
pins: 1 IN (power), 2 ~{SD1} (in), 3 ~{SD2} (in), 4 GND (power), 5 ~{ERR2} (oc), 6 ~{ERR1} (oc), 7 OUT2 (power), 8 OUT1 (power)

## LP2966IMM-2525/NOPB
designator U?
Dual 150mA Ultra Low-Dropout Regulator, 8-pin Mini SOIC, Pb-Free; PartNumber: LP2966IMM-2525/NOPB; Manufacturer: National Semiconductor; PackageTopMarking: ZXTT*LAAB; PowerWise: N; CompType: LDO IC; Published: 1-Mar-2010; DatasheetVersion: Mar-2005; PackageVersion: revF, Apr-2008; PackageReference: MUA08A; Publisher: Altium Limited; PackageDescription: MINI SOIC, .118 x .118 x .034in, 8 Lead, .0256in Pitch; Supplier 1: Digi-Key; Supplier Part Number 1: LP2966IMM-2525/NOPBTR-ND; Supplier 2: Digi-Key; Supplier Part Number 2: LP2966IMM-2525/NOPBCT-ND; Supplier 3: Digi-Key; Supplier Part Number 3: LP2966IMM-2525/NOPBDKR-ND; RoHS: Y; PinCount: 8; Code_JEDEC: MO-187-AA; ComponentLink1Description: LP2966 Datasheet; ComponentLink1URL: http://www.national.com/ds/LP/LP2966.pdf; ComponentLink2Description: LP2966 Web Page; ComponentLink2URL: http://www.national.com/pf/LP/LP2966.html; ComponentLink3Description: MUA08A Package Page; ComponentLink3URL: http://www.national.com/packaging/folders/mua08a.html
footprint MUA08A_N (TSOP, 8-Leads, Body 3x3mm, Pitch 0.65mm, IPC Medium Density)
footprint MUA08A_L (TSOP, 8-Leads, Body 3x3mm, Pitch 0.65mm, IPC High Density)
footprint MUA08A_M (TSOP, 8-Leads, Body 3x3mm, Pitch 0.65mm, IPC Low Density)
pins: 1 IN (power), 2 ~{SD1} (in), 3 ~{SD2} (in), 4 GND (power), 5 ~{ERR2} (oc), 6 ~{ERR1} (oc), 7 OUT2 (power), 8 OUT1 (power)

## LP2966IMM-2828
designator U?
Dual 150mA Ultra Low-Dropout Regulator, 8-pin Mini SOIC; PartNumber: LP2966IMM-2828; Manufacturer: National Semiconductor; PackageTopMarking: ZXTT*LABB; PowerWise: N; CompType: LDO IC; Published: 4-Dec-2008; DatasheetVersion: Mar-2005; PackageVersion: revF, Apr-2008; PackageReference: MUA08A; Publisher: Altium Limited; PackageDescription: MINI SOIC, .118 x .118 x .034in, 8 Lead, .0256in Pitch; Supplier 1: Farnell; Supplier Part Number 1: 9778420; RoHS: N; PinCount: 8; Code_JEDEC: MO-187-AA; ComponentLink1Description: LP2966 Datasheet; ComponentLink1URL: http://www.national.com/ds/LP/LP2966.pdf; ComponentLink2Description: LP2966 Web Page; ComponentLink2URL: http://www.national.com/pf/LP/LP2966.html; ComponentLink3Description: MUA08A Package Page; ComponentLink3URL: http://www.national.com/packaging/folders/mua08a.html
footprint MUA08A_N (TSOP, 8-Leads, Body 3x3mm, Pitch 0.65mm, IPC Medium Density)
footprint MUA08A_L (TSOP, 8-Leads, Body 3x3mm, Pitch 0.65mm, IPC High Density)
footprint MUA08A_M (TSOP, 8-Leads, Body 3x3mm, Pitch 0.65mm, IPC Low Density)
pins: 1 IN (power), 2 ~{SD1} (in), 3 ~{SD2} (in), 4 GND (power), 5 ~{ERR2} (oc), 6 ~{ERR1} (oc), 7 OUT2 (power), 8 OUT1 (power)

## LP2966IMM-3325
designator U?
Dual 150mA Ultra Low-Dropout Regulator, 8-pin Mini SOIC; PartNumber: LP2966IMM-3325; Manufacturer: National Semiconductor; PackageTopMarking: ZXTT*LARB; PowerWise: N; CompType: LDO IC; Published: 4-Dec-2008; DatasheetVersion: Mar-2005; PackageVersion: revF, Apr-2008; PackageReference: MUA08A; Publisher: Altium Limited; PackageDescription: MINI SOIC, .118 x .118 x .034in, 8 Lead, .0256in Pitch; Supplier 1: Farnell; Supplier Part Number 1: 1312849; RoHS: N; PinCount: 8; Code_JEDEC: MO-187-AA; ComponentLink1Description: LP2966 Datasheet; ComponentLink1URL: http://www.national.com/ds/LP/LP2966.pdf; ComponentLink2Description: LP2966 Web Page; ComponentLink2URL: http://www.national.com/pf/LP/LP2966.html; ComponentLink3Description: MUA08A Package Page; ComponentLink3URL: http://www.national.com/packaging/folders/mua08a.html
footprint MUA08A_N (TSOP, 8-Leads, Body 3x3mm, Pitch 0.65mm, IPC Medium Density)
footprint MUA08A_L (TSOP, 8-Leads, Body 3x3mm, Pitch 0.65mm, IPC High Density)
footprint MUA08A_M (TSOP, 8-Leads, Body 3x3mm, Pitch 0.65mm, IPC Low Density)
pins: 1 IN (power), 2 ~{SD1} (in), 3 ~{SD2} (in), 4 GND (power), 5 ~{ERR2} (oc), 6 ~{ERR1} (oc), 7 OUT2 (power), 8 OUT1 (power)

## LP2966IMM-3325/NOPB
designator U?
Dual 150mA Ultra Low-Dropout Regulator, 8-pin Mini SOIC, Pb-Free; PartNumber: LP2966IMM-3325/NOPB; Manufacturer: National Semiconductor; PackageTopMarking: ZXTT*LARB; PowerWise: N; CompType: LDO IC; Published: 1-Mar-2010; DatasheetVersion: Mar-2005; PackageVersion: revF, Apr-2008; PackageReference: MUA08A; Publisher: Altium Limited; PackageDescription: MINI SOIC, .118 x .118 x .034in, 8 Lead, .0256in Pitch; Supplier 1: Digi-Key; Supplier Part Number 1: LP2966IMM-3325TR-ND; Supplier 2: Digi-Key; Supplier Part Number 2: LP2966IMM-3325CT-ND; Supplier 3: Digi-Key; Supplier Part Number 3: LP2966IMM-3325DKR-ND; RoHS: Y; PinCount: 8; Code_JEDEC: MO-187-AA; ComponentLink1Description: LP2966 Datasheet; ComponentLink1URL: http://www.national.com/ds/LP/LP2966.pdf; ComponentLink2Description: LP2966 Web Page; ComponentLink2URL: http://www.national.com/pf/LP/LP2966.html; ComponentLink3Description: MUA08A Package Page; ComponentLink3URL: http://www.national.com/packaging/folders/mua08a.html
footprint MUA08A_N (TSOP, 8-Leads, Body 3x3mm, Pitch 0.65mm, IPC Medium Density)
footprint MUA08A_L (TSOP, 8-Leads, Body 3x3mm, Pitch 0.65mm, IPC High Density)
footprint MUA08A_M (TSOP, 8-Leads, Body 3x3mm, Pitch 0.65mm, IPC Low Density)
pins: 1 IN (power), 2 ~{SD1} (in), 3 ~{SD2} (in), 4 GND (power), 5 ~{ERR2} (oc), 6 ~{ERR1} (oc), 7 OUT2 (power), 8 OUT1 (power)

## LP2966IMM-5050
designator U?
Dual 150mA Ultra Low-Dropout Regulator, 8-pin Mini SOIC; PartNumber: LP2966IMM-5050; Manufacturer: National Semiconductor; PackageTopMarking: ZXTT*LAFB; PowerWise: N; CompType: LDO IC; Published: 4-Dec-2008; DatasheetVersion: Mar-2005; PackageVersion: revF, Apr-2008; PackageReference: MUA08A; Publisher: Altium Limited; PackageDescription: MINI SOIC, .118 x .118 x .034in, 8 Lead, .0256in Pitch; Supplier 1: Farnell; Supplier Part Number 1: 9778462; RoHS: N; PinCount: 8; Code_JEDEC: MO-187-AA; ComponentLink1Description: LP2966 Datasheet; ComponentLink1URL: http://www.national.com/ds/LP/LP2966.pdf; ComponentLink2Description: LP2966 Web Page; ComponentLink2URL: http://www.national.com/pf/LP/LP2966.html; ComponentLink3Description: MUA08A Package Page; ComponentLink3URL: http://www.national.com/packaging/folders/mua08a.html
footprint MUA08A_N (TSOP, 8-Leads, Body 3x3mm, Pitch 0.65mm, IPC Medium Density)
footprint MUA08A_L (TSOP, 8-Leads, Body 3x3mm, Pitch 0.65mm, IPC High Density)
footprint MUA08A_M (TSOP, 8-Leads, Body 3x3mm, Pitch 0.65mm, IPC Low Density)
pins: 1 IN (power), 2 ~{SD1} (in), 3 ~{SD2} (in), 4 GND (power), 5 ~{ERR2} (oc), 6 ~{ERR1} (oc), 7 OUT2 (power), 8 OUT1 (power)

## LP2966IMM-5050/NOPB
designator U?
Dual 150mA Ultra Low-Dropout Regulator, 8-pin Mini SOIC, Pb-Free; PartNumber: LP2966IMM-5050/NOPB; Manufacturer: National Semiconductor; PackageTopMarking: ZXTT*LAFB; PowerWise: N; CompType: LDO IC; Published: 1-Mar-2010; DatasheetVersion: Mar-2005; PackageVersion: revF, Apr-2008; PackageReference: MUA08A; Publisher: Altium Limited; PackageDescription: MINI SOIC, .118 x .118 x .034in, 8 Lead, .0256in Pitch; Supplier 1: Digi-Key; Supplier Part Number 1: LP2966IMM-5050TR-ND; Supplier 2: Digi-Key; Supplier Part Number 2: LP2966IMM-5050CT-ND; Supplier 3: Digi-Key; Supplier Part Number 3: LP2966IMM-5050DKR-ND; RoHS: Y; PinCount: 8; Code_JEDEC: MO-187-AA; ComponentLink1Description: LP2966 Datasheet; ComponentLink1URL: http://www.national.com/ds/LP/LP2966.pdf; ComponentLink2Description: LP2966 Web Page; ComponentLink2URL: http://www.national.com/pf/LP/LP2966.html; ComponentLink3Description: MUA08A Package Page; ComponentLink3URL: http://www.national.com/packaging/folders/mua08a.html
footprint MUA08A_N (TSOP, 8-Leads, Body 3x3mm, Pitch 0.65mm, IPC Medium Density)
footprint MUA08A_L (TSOP, 8-Leads, Body 3x3mm, Pitch 0.65mm, IPC High Density)
footprint MUA08A_M (TSOP, 8-Leads, Body 3x3mm, Pitch 0.65mm, IPC Low Density)
pins: 1 IN (power), 2 ~{SD1} (in), 3 ~{SD2} (in), 4 GND (power), 5 ~{ERR2} (oc), 6 ~{ERR1} (oc), 7 OUT2 (power), 8 OUT1 (power)

## LP2966IMMX-1833
designator U?
Dual 150mA Ultra Low-Dropout Regulator, 8-pin Mini SOIC; PartNumber: LP2966IMMX-1833; Manufacturer: National Semiconductor; PackageTopMarking: ZXTT*LCFB; PowerWise: N; CompType: LDO IC; Published: 1-Mar-2010; DatasheetVersion: Mar-2005; PackageVersion: revF, Apr-2008; PackageReference: MUA08A; Publisher: Altium Limited; PackageDescription: MINI SOIC, .118 x .118 x .034in, 8 Lead, .0256in Pitch; RoHS: N; PinCount: 8; Code_JEDEC: MO-187-AA; ComponentLink1Description: LP2966 Datasheet; ComponentLink1URL: http://www.national.com/ds/LP/LP2966.pdf; ComponentLink2Description: LP2966 Web Page; ComponentLink2URL: http://www.national.com/pf/LP/LP2966.html; ComponentLink3Description: MUA08A Package Page; ComponentLink3URL: http://www.national.com/packaging/folders/mua08a.html
footprint MUA08A_N (TSOP, 8-Leads, Body 3x3mm, Pitch 0.65mm, IPC Medium Density)
footprint MUA08A_L (TSOP, 8-Leads, Body 3x3mm, Pitch 0.65mm, IPC High Density)
footprint MUA08A_M (TSOP, 8-Leads, Body 3x3mm, Pitch 0.65mm, IPC Low Density)
pins: 1 IN (power), 2 ~{SD1} (in), 3 ~{SD2} (in), 4 GND (power), 5 ~{ERR2} (oc), 6 ~{ERR1} (oc), 7 OUT2 (power), 8 OUT1 (power)

## LP2966IMMX-2518
designator U?
Dual 150mA Ultra Low-Dropout Regulator, 8-pin Mini SOIC; PartNumber: LP2966IMMX-2518; Manufacturer: National Semiconductor; PackageTopMarking: ZXTT*LJKB; PowerWise: N; CompType: LDO IC; Published: 1-Mar-2010; DatasheetVersion: Mar-2005; PackageVersion: revF, Apr-2008; PackageReference: MUA08A; Publisher: Altium Limited; PackageDescription: MINI SOIC, .118 x .118 x .034in, 8 Lead, .0256in Pitch; RoHS: N; PinCount: 8; Code_JEDEC: MO-187-AA; ComponentLink1Description: LP2966 Datasheet; ComponentLink1URL: http://www.national.com/ds/LP/LP2966.pdf; ComponentLink2Description: LP2966 Web Page; ComponentLink2URL: http://www.national.com/pf/LP/LP2966.html; ComponentLink3Description: MUA08A Package Page; ComponentLink3URL: http://www.national.com/packaging/folders/mua08a.html
footprint MUA08A_N (TSOP, 8-Leads, Body 3x3mm, Pitch 0.65mm, IPC Medium Density)
footprint MUA08A_L (TSOP, 8-Leads, Body 3x3mm, Pitch 0.65mm, IPC High Density)
footprint MUA08A_M (TSOP, 8-Leads, Body 3x3mm, Pitch 0.65mm, IPC Low Density)
pins: 1 IN (power), 2 ~{SD1} (in), 3 ~{SD2} (in), 4 GND (power), 5 ~{ERR2} (oc), 6 ~{ERR1} (oc), 7 OUT2 (power), 8 OUT1 (power)

## LP2966IMMX-3325
designator U?
Dual 150mA Ultra Low-Dropout Regulator, 8-pin Mini SOIC; PartNumber: LP2966IMMX-3325; Manufacturer: National Semiconductor; PackageTopMarking: ZXTT*LARB; PowerWise: N; CompType: LDO IC; Published: 1-Mar-2010; DatasheetVersion: Mar-2005; PackageVersion: revF, Apr-2008; PackageReference: MUA08A; Publisher: Altium Limited; PackageDescription: MINI SOIC, .118 x .118 x .034in, 8 Lead, .0256in Pitch; RoHS: N; PinCount: 8; Code_JEDEC: MO-187-AA; ComponentLink1Description: LP2966 Datasheet; ComponentLink1URL: http://www.national.com/ds/LP/LP2966.pdf; ComponentLink2Description: LP2966 Web Page; ComponentLink2URL: http://www.national.com/pf/LP/LP2966.html; ComponentLink3Description: MUA08A Package Page; ComponentLink3URL: http://www.national.com/packaging/folders/mua08a.html
footprint MUA08A_N (TSOP, 8-Leads, Body 3x3mm, Pitch 0.65mm, IPC Medium Density)
footprint MUA08A_L (TSOP, 8-Leads, Body 3x3mm, Pitch 0.65mm, IPC High Density)
footprint MUA08A_M (TSOP, 8-Leads, Body 3x3mm, Pitch 0.65mm, IPC Low Density)
pins: 1 IN (power), 2 ~{SD1} (in), 3 ~{SD2} (in), 4 GND (power), 5 ~{ERR2} (oc), 6 ~{ERR1} (oc), 7 OUT2 (power), 8 OUT1 (power)

## LP2967ITP-1825
designator U?
Dual Micropower 150 mA Low-Dropout Regulator, 8-pin Micro SMD; PartNumber: LP2967ITP-1825; Manufacturer: National Semiconductor; PackageTopMarking: XVL*I 07; PowerWise: N; CompType: LDO IC; Published: 4-Dec-2008; DatasheetVersion: Jun-2005; PackageVersion: revA, Mar-2002; PackageReference: TPA08F5A; Publisher: Altium Limited; PackageDescription: Thin Micro SMD, 8 Bump, 0.5mm Pitch; RoHS: Y; PinCount: 8; Code_JEDEC: MO-211-BC; ComponentLink1Description: LP2967 Datasheet; ComponentLink1URL: http://www.national.com/ds/LP/LP2967.pdf; ComponentLink2Description: LP2967 Web Page; ComponentLink2URL: http://www.national.com/pf/LP/LP2967.html; ComponentLink3Description: TPA08F5A Package Page; ComponentLink3URL: http://www.national.com/packaging/folders/tpa08f5a.html
footprint TPA08F5A (Micro SMD, 8-Leads, Body 1.95x1.41mm, Pitch 0.5mm, NSC Recommended)
pins: A1 OUT2 (power), A2 IN (power), A3 OUT1 (power), B1 SD2 (in), B3 SD1 (in), C1 CBYP, C2 GND (power), C3 GND (power)

## LP2967ITP-1825/NOPB
designator U?
Dual Micropower 150 mA Low-Dropout Regulator, 8-pin Micro SMD, Pb-Free; PartNumber: LP2967ITP-1825/NOPB; Manufacturer: National Semiconductor; PackageTopMarking: XVL*I 07; PowerWise: N; CompType: LDO IC; Published: 1-Mar-2010; DatasheetVersion: Jun-2005; PackageVersion: revA, Mar-2002; PackageReference: TPA08F5A; Publisher: Altium Limited; PackageDescription: Thin Micro SMD, 8 Bump, 0.5mm Pitch; Supplier 1: Digi-Key; Supplier Part Number 1: LP2967ITP-1825TR-ND; Supplier 2: Digi-Key; Supplier Part Number 2: LP2967ITP-1825CT-ND; Supplier 3: Digi-Key; Supplier Part Number 3: LP2967ITP-1825DKR-ND; RoHS: Y; PinCount: 8; Code_JEDEC: MO-211-BC; ComponentLink1Description: LP2967 Datasheet; ComponentLink1URL: http://www.national.com/ds/LP/LP2967.pdf; ComponentLink2Description: LP2967 Web Page; ComponentLink2URL: http://www.national.com/pf/LP/LP2967.html; ComponentLink3Description: TPA08F5A Package Page; ComponentLink3URL: http://www.national.com/packaging/folders/tpa08f5a.html
footprint TPA08F5A (Micro SMD, 8-Leads, Body 1.95x1.41mm, Pitch 0.5mm, NSC Recommended)
pins: A1 OUT2 (power), A2 IN (power), A3 OUT1 (power), B1 SD2 (in), B3 SD1 (in), C1 CBYP, C2 GND (power), C3 GND (power)

## LP2967ITP-1833
designator U?
Dual Micropower 150 mA Low-Dropout Regulator, 8-pin Micro SMD; PartNumber: LP2967ITP-1833; Manufacturer: National Semiconductor; PackageTopMarking: XVL*I 11; PowerWise: N; CompType: LDO IC; Published: 4-Dec-2008; DatasheetVersion: Jun-2005; PackageVersion: revA, Mar-2002; PackageReference: TPA08F5A; Publisher: Altium Limited; PackageDescription: Thin Micro SMD, 8 Bump, 0.5mm Pitch; RoHS: Y; PinCount: 8; Code_JEDEC: MO-211-BC; ComponentLink1Description: LP2967 Datasheet; ComponentLink1URL: http://www.national.com/ds/LP/LP2967.pdf; ComponentLink2Description: LP2967 Web Page; ComponentLink2URL: http://www.national.com/pf/LP/LP2967.html; ComponentLink3Description: TPA08F5A Package Page; ComponentLink3URL: http://www.national.com/packaging/folders/tpa08f5a.html
footprint TPA08F5A (Micro SMD, 8-Leads, Body 1.95x1.41mm, Pitch 0.5mm, NSC Recommended)
pins: A1 OUT2 (power), A2 IN (power), A3 OUT1 (power), B1 SD2 (in), B3 SD1 (in), C1 CBYP, C2 GND (power), C3 GND (power)

## LP2967ITP-1833/NOPB
designator U?
Dual Micropower 150 mA Low-Dropout Regulator, 8-pin Micro SMD, Pb-Free; PartNumber: LP2967ITP-1833/NOPB; Manufacturer: National Semiconductor; PackageTopMarking: XVL*I 11; PowerWise: N; CompType: LDO IC; Published: 1-Mar-2010; DatasheetVersion: Jun-2005; PackageVersion: revA, Mar-2002; PackageReference: TPA08F5A; Publisher: Altium Limited; PackageDescription: Thin Micro SMD, 8 Bump, 0.5mm Pitch; Supplier 1: Digi-Key; Supplier Part Number 1: LP2967ITP-1833TR-ND; Supplier 2: Digi-Key; Supplier Part Number 2: LP2967ITP-1833CT-ND; Supplier 3: Digi-Key; Supplier Part Number 3: LP2967ITP-1833DKR-ND; RoHS: Y; PinCount: 8; Code_JEDEC: MO-211-BC; ComponentLink1Description: LP2967 Datasheet; ComponentLink1URL: http://www.national.com/ds/LP/LP2967.pdf; ComponentLink2Description: LP2967 Web Page; ComponentLink2URL: http://www.national.com/pf/LP/LP2967.html; ComponentLink3Description: TPA08F5A Package Page; ComponentLink3URL: http://www.national.com/packaging/folders/tpa08f5a.html
footprint TPA08F5A (Micro SMD, 8-Leads, Body 1.95x1.41mm, Pitch 0.5mm, NSC Recommended)
pins: A1 OUT2 (power), A2 IN (power), A3 OUT1 (power), B1 SD2 (in), B3 SD1 (in), C1 CBYP, C2 GND (power), C3 GND (power)

## LP2967ITP-2830
designator U?
Dual Micropower 150 mA Low-Dropout Regulator, 8-pin Micro SMD; PartNumber: LP2967ITP-2830; Manufacturer: National Semiconductor; PackageTopMarking: XVL*I 22; PowerWise: N; CompType: LDO IC; Published: 4-Dec-2008; DatasheetVersion: Jun-2005; PackageVersion: revA, Mar-2002; PackageReference: TPA08F5A; Publisher: Altium Limited; PackageDescription: Thin Micro SMD, 8 Bump, 0.5mm Pitch; RoHS: Y; PinCount: 8; Code_JEDEC: MO-211-BC; ComponentLink1Description: LP2967 Datasheet; ComponentLink1URL: http://www.national.com/ds/LP/LP2967.pdf; ComponentLink2Description: LP2967 Web Page; ComponentLink2URL: http://www.national.com/pf/LP/LP2967.html; ComponentLink3Description: TPA08F5A Package Page; ComponentLink3URL: http://www.national.com/packaging/folders/tpa08f5a.html
footprint TPA08F5A (Micro SMD, 8-Leads, Body 1.95x1.41mm, Pitch 0.5mm, NSC Recommended)
pins: A1 OUT2 (power), A2 IN (power), A3 OUT1 (power), B1 SD2 (in), B3 SD1 (in), C1 CBYP, C2 GND (power), C3 GND (power)

## LP2967ITP-2830/NOPB
designator U?
Dual Micropower 150 mA Low-Dropout Regulator, 8-pin Micro SMD, Pb-Free; PartNumber: LP2967ITP-2830/NOPB; Manufacturer: National Semiconductor; PackageTopMarking: XVL*I 22; PowerWise: N; CompType: LDO IC; Published: 1-Mar-2010; DatasheetVersion: Jun-2005; PackageVersion: revA, Mar-2002; PackageReference: TPA08F5A; Publisher: Altium Limited; PackageDescription: Thin Micro SMD, 8 Bump, 0.5mm Pitch; Supplier 1: Digi-Key; Supplier Part Number 1: LP2967ITP-2830TR-ND; Supplier 2: Digi-Key; Supplier Part Number 2: LP2967ITP-2830CT-ND; Supplier 3: Digi-Key; Supplier Part Number 3: LP2967ITP-2830DKR-ND; RoHS: Y; PinCount: 8; Code_JEDEC: MO-211-BC; ComponentLink1Description: LP2967 Datasheet; ComponentLink1URL: http://www.national.com/ds/LP/LP2967.pdf; ComponentLink2Description: LP2967 Web Page; ComponentLink2URL: http://www.national.com/pf/LP/LP2967.html; ComponentLink3Description: TPA08F5A Package Page; ComponentLink3URL: http://www.national.com/packaging/folders/tpa08f5a.html
footprint TPA08F5A (Micro SMD, 8-Leads, Body 1.95x1.41mm, Pitch 0.5mm, NSC Recommended)
pins: A1 OUT2 (power), A2 IN (power), A3 OUT1 (power), B1 SD2 (in), B3 SD1 (in), C1 CBYP, C2 GND (power), C3 GND (power)

## LP2967ITP-2833
designator U?
Dual Micropower 150 mA Low-Dropout Regulator, 8-pin Micro SMD; PartNumber: LP2967ITP-2833; Manufacturer: National Semiconductor; PackageTopMarking: XVL*I 09; PowerWise: N; CompType: LDO IC; Published: 4-Dec-2008; DatasheetVersion: Jun-2005; PackageVersion: revA, Mar-2002; PackageReference: TPA08F5A; Publisher: Altium Limited; PackageDescription: Thin Micro SMD, 8 Bump, 0.5mm Pitch; RoHS: Y; PinCount: 8; Code_JEDEC: MO-211-BC; ComponentLink1Description: LP2967 Datasheet; ComponentLink1URL: http://www.national.com/ds/LP/LP2967.pdf; ComponentLink2Description: LP2967 Web Page; ComponentLink2URL: http://www.national.com/pf/LP/LP2967.html; ComponentLink3Description: TPA08F5A Package Page; ComponentLink3URL: http://www.national.com/packaging/folders/tpa08f5a.html
footprint TPA08F5A (Micro SMD, 8-Leads, Body 1.95x1.41mm, Pitch 0.5mm, NSC Recommended)
pins: A1 OUT2 (power), A2 IN (power), A3 OUT1 (power), B1 SD2 (in), B3 SD1 (in), C1 CBYP, C2 GND (power), C3 GND (power)